# EAGLE library part AD7745ARUZ-REEL7 (library AD7745ARUZ-REEL7)
Capacitance-to-Digital Converter
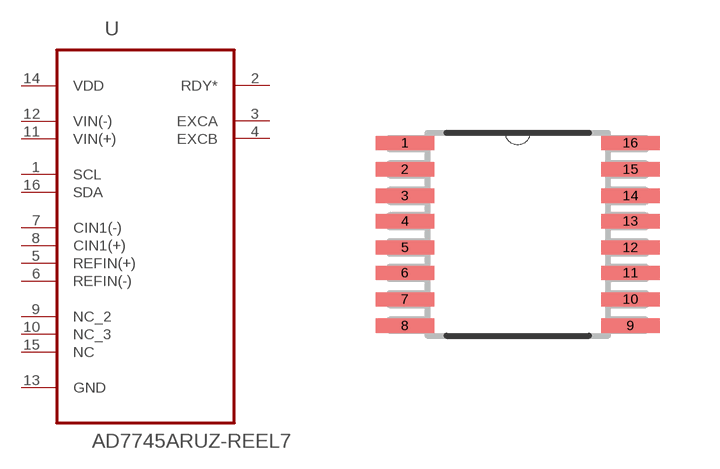
[diagram p0: symbol with the pads of SOP65P640X120-16N; footprint SOP65P640X120-16N]

Designator prefix U

## AD7745ARUZ-REEL7 (DESCRIPTION: Capacitance-to-Digital Converter 24 b - Serial 16-TSSOP; DIGI-KEY_PART_NUMBER: AD7745ARUZ-REEL7TR-ND; MF: Analog Devices; MP: AD7745ARUZ-REEL7; PACKAGE: TSSOP-16 Analog Devices; PURCHASE-URL: https://pricing.snapeda.com/search/part/AD7745ARUZ-REEL7/?ref=eda)  [SOP65P640X120-16N]
1  SCL  in
2  RDY*  out
3  EXCA  out
4  EXCB  out
5  REFIN(+)  in
6  REFIN(-)  in
7  CIN1(-)  in
8  CIN1(+)  in
9  NC_2  nc
10  NC_3  nc
11  VIN(+)  in
12  VIN(-)  in
13  GND  pas
14  VDD  pwr
15  NC  nc
16  SDA

## Footprint SOP65P640X120-16N (pad centres in mm)
smd 1.473 x 0.356: 1 -2.819,2.286; 2 -2.819,1.626; 3 -2.819,0.965; 4 -2.819,0.33; 5 -2.819,-0.33; 6 -2.819,-0.965; 7 -2.819,-1.626; 8 -2.819,-2.286; 9 2.819,-2.286; 10 2.819,-1.626; 11 2.819,-0.965; 12 2.819,-0.33; 13 2.819,0.33; 14 2.819,0.965; 15 2.819,1.626; 16 2.819,2.286